# Altium footprint library DriveBoard.PcbLib: 18 footprints (part 1 of 2)
Each footprint in its own frame and in the unit in brackets; x right, y up, seen from the top. Pads: shape width x height; smd on the part's side, far side on the other; paste and mask are expansions set on the pad; w line width, h text height; cw(c..) or ccw(c..) is an arc to the next point about the centre after c.
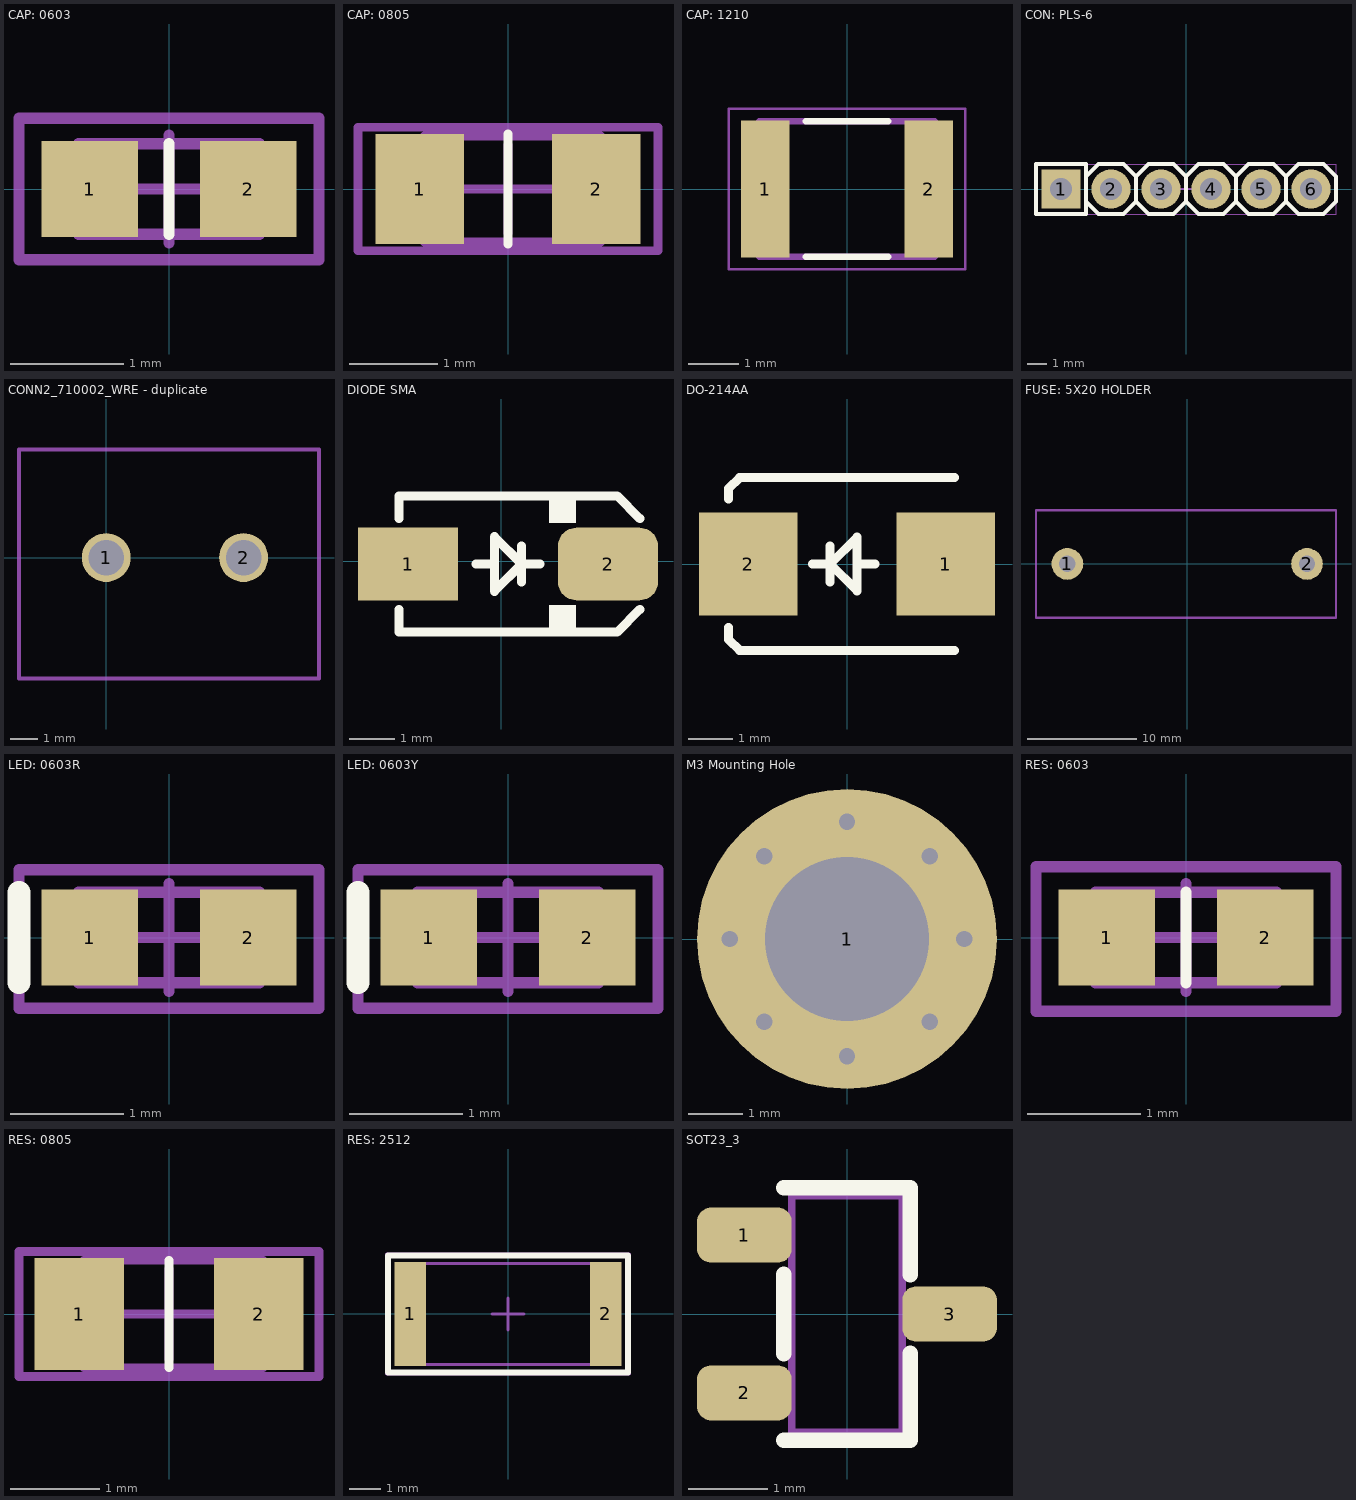
[diagram p0: the footprints below, top view; thin cyan lines are the x and y axes]

## CAP: 0603 [mm]
height 0.45
pads (2):
  rect 0.85x0.85 smd: 1(-0.7,0) 2(0.7,0)
Top Overlay:
  lines w0.1: 0,-0.4 0,0.4
Mechanical 1:
  lines w0.1: -0.8,-0.4 -0.8,0.4 0.8,0.4 0.8,-0.4 -0.8,-0.4
Mechanical 15:
  lines w0.1: -0.475,0 0.475,0 ; 0,-0.475 0,0.475 ; -1.325,-0.625 1.325,-0.625 1.325,0.625 -1.325,0.625 -1.325,-0.625
3D body "SW3dPS-0603 SMD Capacitor.STEP": height 0.3, standoff 0, extent -0.8,-0.4 0.8,0.4

## CAP: 0805 [mm]
height 0.45
pads (2):
  rect 1x1.25 smd: 1(-1,0) 2(1,0)
Top Overlay:
  lines w0.1: 0,-0.625 0,0.625
Mechanical 1:
  lines w0.1: -0.949,-0.6 -0.949,0.6 1.05,0.6 1.05,-0.6 -0.949,-0.6
Mechanical 15:
  lines w0.1: -0.5,0 0.5,0 ; 0,-0.5 0,0.5 ; -1.7,-0.7 1.7,-0.7 1.7,0.7 -1.7,0.7 -1.7,-0.7
3D body "SW3dPS-0805 SMD Capacitor.STEP": height 0.78, standoff 0, extent -1,-0.625 1,0.625

## CAP: 1210 [mm]
height 2.5
pads (2):
  rect 0.96x2.72 smd: 1(-1.625,0) 2(1.625,0)
Top Overlay:
  lines w0.127: -0.82,-1.35 0.82,-1.35 ; -0.82,1.35 0.82,1.35
Mechanical 13:
  lines w0.127: -1.75,-1.35 -1.75,1.35 1.75,1.35 1.75,-1.35 -1.75,-1.35
Mechanical 15:
  lines w0.05: -2.355,-1.6 -2.355,1.6 2.355,1.6 2.355,-1.6 -2.355,-1.6
3D body "c1210c106m6pactu.stp": height 2.09, standoff -0.01, extent -1.675,-1.346 1.725,1.354

## CON: PLS-6 [mm]
height 10
pads (6):
  rect 2x2 hole 1.1: 1(-6.35,0)
  round 2 hole 1.1: 2(-3.81,0) 3(-1.27,0) 4(1.27,0) 5(3.81,0) 6(6.35,0)
Top Overlay:
  lines w0.2: -5.08,-0.635 -4.445,-1.27 -3.175,-1.27 -2.54,-0.635 ; -5.08,0.635 -4.445,1.27 -3.175,1.27 -2.54,0.635 ; -2.54,-0.635 -1.905,-1.27 -0.635,-1.27 0,-0.635 ; -2.54,-0.635 -2.54,0.635 ; -2.54,0.635 -1.905,1.27 -0.635,1.27 0,0.635 ; 0,-0.635 0.635,-1.27 1.905,-1.27 2.54,-0.635 ; 0,-0.635 0,0.635 ; 0,0.635 0.635,1.27 1.905,1.27 2.54,0.635 ; 2.54,-0.635 3.175,-1.27 4.445,-1.27 5.08,-0.635 ; 2.54,-0.635 2.54,0.635 ; 2.54,0.635 3.175,1.27 4.445,1.27 5.08,0.635 ; 5.08,-0.635 5.08,0.635 ; 5.08,-0.635 5.715,-1.27 6.985,-1.27 7.62,-0.635 7.62,0.635 6.985,1.27 5.715,1.27 5.08,0.635 ; -7.62,-1.27 -5.08,-1.27 -5.08,1.27 -7.62,1.27 -7.62,-1.27
Mechanical 1:
  lines w0.1: -5.08,-0.635 -4.445,-1.27 -3.175,-1.27 -2.54,-0.635 ; -5.08,0.635 -4.445,1.27 -3.175,1.27 -2.54,0.635 ; -2.54,-0.635 -2.54,0.635 ; -2.54,-0.635 -1.905,-1.27 -0.635,-1.27 0,-0.635 ; -2.54,0.635 -1.905,1.27 -0.635,1.27 0,0.635 ; 0,-0.635 0,0.635 ; 0,-0.635 0.635,-1.27 1.905,-1.27 2.54,-0.635 ; 0,0.635 0.635,1.27 1.905,1.27 2.54,0.635 ; 2.54,-0.635 2.54,0.635 ; 2.54,-0.635 3.175,-1.27 4.445,-1.27 5.08,-0.635 ; 2.54,0.635 3.175,1.27 4.445,1.27 5.08,0.635 ; 5.08,-0.635 5.715,-1.27 6.985,-1.27 7.62,-0.635 7.62,0.635 6.985,1.27 5.715,1.27 5.08,0.635 ; 5.08,-0.635 5.08,0.635 ; -7.62,-1.27 -7.62,1.27 -5.08,1.27 -5.08,-1.27 -7.62,-1.27
Mechanical 15:
  lines w0.05: -7.62,-1.27 -7.62,1.27 7.62,1.27 7.62,-1.27 -7.62,-1.27
  lines w0.1: -0.5,0 0.5,0 ; 0,-0.5 0,0.5
3D body "PLS-6.STEP": height 8.54, standoff -3, extent -7.62,-1.27 7.62,1.27

## CONN2_710002_WRE - duplicate [mil]
pads (2):
  round 70 hole 51 paste-99999 mask+0: 1(0,0) 2(196.85,0)
Mechanical 15:
  lines w6: -125,-173.5 -125,155 304.95,155 304.95,-173.5 -125,-173.5
3D body "691213710002 (rev1).stp": height 393.59, standoff -149.72, extent -120.94,-175 296.38,151.77

## DIODE SMA [mm]
pads (2):
  rect 2.2x1.6 smd: 1(-2.05,-0.06)
  rrect50% 2.2x1.6 smd: 2(2.35,-0.06)
Top Overlay:
  rectangle: 1.05,0.84 1.65,1.44
  rectangle: 1.05,-1.56 1.65,-0.96
  lines w0.2: -2.25,-1.06 -2.25,-1.56 2.55,-1.56 3.05,-1.06 ; -2.25,0.94 -2.25,1.44 2.55,1.44 3.05,0.94 ; -0.55,-0.06 -0.15,-0.06 ; 0.45,-0.46 0.45,0.34 ; 0.85,-0.06 0.45,-0.06 ; 0.45,-0.06 -0.15,-0.66 -0.15,0.54 0.45,-0.06
3D body "User Library-DIOM5528X26.step": height 2.6, standoff 0.03, extent -2.6,-1.46 2.9,1.34

## DO-214AA [mm]
height 5
pads (2):
  rect 2.2x2.3 smd: 1(2.2,0) 2(-2.2,0)
Top Overlay:
  lines w0.2: -2.642,-1.422 -2.642,-1.688 -2.399,-1.93 2.401,-1.93 ; -2.642,1.448 -2.642,1.689 -2.4,1.93 2.401,1.93 ; -0.776,0 -0.376,0 ; -0.376,-0.4 -0.376,0.4 ; 0.224,0 0.624,0 ; -0.376,0 0.224,-0.6 0.224,0.6 -0.376,0
3D body "SMBJ8.5CA.STEP": height 2.66, standoff 0.05, extent -2.802,-1.81 2.598,1.81

## FUSE: 5X20 HOLDER [mm]
pads (2):
  round 2.9 hole 1.5: 1(-10.95,0) 2(10.95,0)
Mechanical 10:
  lines w0.2: 9.674,4.911 13.6,4.911 13.6,-4.924 -13.825,-4.924 -13.825,4.912 9.95,4.912
3D body "User Library-BLX-A Fuse Holder.step": height 13.07, standoff -4, extent -13.7,-4.8 13.478,4.8

## HSS-B20-NP-06 [mm] "Heat Sinks 19 x 19 x 9.52mm TO-220 bolt on"
height 9.52
3D body "HSS-B20-NP-06.stp": height 22.1, standoff 3.1, extent -9.5,-9.52 9.5,0

## LED: 0603R [mm]
height 0.45
pads (2):
  rect 0.85x0.85 smd: 1(-0.7,0) 2(0.7,0)
Top Overlay:
  lines w0.2: -1.325,-0.4 -1.325,0.4
Mechanical 1:
  lines w0.1: -0.8,-0.4 -0.8,0.4 0.8,0.4 0.8,-0.4 -0.8,-0.4
Mechanical 15:
  lines w0.1: -0.475,0 0.475,0 ; 0,-0.475 0,0.475 ; -1.325,-0.625 -1.325,0.6 1.325,0.6 1.325,-0.625 -1.325,-0.625
3D body "User Library-LED_0603_R.STEP": height 0.6, standoff 0, extent -0.8,-0.4 0.8,0.4

## LED: 0603Y [mm]
height 0.45
pads (2):
  rect 0.85x0.85 smd: 1(-0.7,0) 2(0.7,0)
Top Overlay:
  lines w0.2: -1.325,-0.4 -1.325,0.4
Mechanical 1:
  lines w0.1: -0.8,-0.4 0.8,-0.4 0.8,0.4 -0.8,0.4 -0.8,-0.4
Mechanical 15:
  lines w0.1: -0.475,0 0.475,0 ; 0,-0.475 0,0.475 ; -1.325,-0.625 1.325,-0.625 1.325,0.6 -1.325,0.6 -1.325,-0.625
3D body "User Library-LED_0603_Y.STEP": height 0.6, standoff 0, extent -0.8,-0.4 0.8,0.4

## M3 Mounting Hole [mm]
pads (1):
  round 5.5 hole 3 paste-2539.97 mask+0: 1(0,0)
via -2.15,0 diameter 0.6 hole 0.3
via 2.15,0 diameter 0.6 hole 0.3
via 0,-2.15 diameter 0.6 hole 0.3
via 1.52,-1.52 diameter 0.6 hole 0.3
via 1.52,1.52 diameter 0.6 hole 0.3
via -1.52,1.52 diameter 0.6 hole 0.3
via -1.52,-1.52 diameter 0.6 hole 0.3
via 0,2.15 diameter 0.6 hole 0.3
Mechanical 1:
  circle w0.05: c0,0 r2.15

## RES: 0603 [mm]
height 0.45
pads (2):
  rect 0.85x0.85 smd: 1(-0.7,0) 2(0.7,0)
Top Overlay:
  lines w0.1: 0,-0.4 0,0.4
Mechanical 1:
  lines w0.1: -0.8,-0.4 -0.8,0.4 0.8,0.4 0.8,-0.4 -0.8,-0.4
Mechanical 15:
  lines w0.1: -0.475,0 0.475,0 ; 0,-0.475 0,0.475 ; -1.325,-0.65 1.325,-0.65 1.325,0.625 -1.325,0.625 -1.325,-0.65
3D body "chip_0603_r.STEP": height 0.44, standoff -0.02, extent -0.8,-0.4 0.8,0.4

## RES: 0805 [mm]
height 0.45
pads (2):
  rect 1x1.25 smd: 1(-1,0) 2(1,0)
Top Overlay:
  lines w0.1: 0,-0.6 0,0.6
Mechanical 1:
  lines w0.1: -0.949,-0.6 1.05,-0.6 1.05,0.6 -0.949,0.6 -0.949,-0.6
Mechanical 15:
  lines w0.1: -0.5,0 0.5,0 ; 0,-0.5 0,0.5 ; -1.675,-0.7 -1.675,0.7 1.675,0.7 1.675,-0.7 -1.675,-0.7
3D body "chip_0805_r.STEP": height 0.44, standoff -0.02, extent -1,-0.6 1,0.6

## RES: 2512 [mm]
height 0.55
pads (2):
  rect 1x3.3 smd: 1(-3.1,0) 2(3.1,0)
Top Overlay:
  lines w0.2: -3.8,-1.85 3.8,-1.85 3.8,1.85 -3.8,1.85 -3.8,-1.85
Mechanical 1:
  lines w0.1: -3.175,-1.6 3.175,-1.6 3.175,1.6 -3.175,1.6 -3.175,-1.6
Mechanical 15:
  lines w0.1: -0.5,0 0.5,0 ; 0,-0.5 0,0.5 ; -3.85,-1.9 -3.85,1.9 3.85,1.9 3.85,-1.9 -3.85,-1.9
3D body "chip_2512_r.STEP": height 0.52, standoff -0.04, extent -3.175,-1.6 3.175,1.6

## SOT23_3 [mm]
pads (3):
  rrect50% 1.2x0.7 smd mask+0.1: 1(-1.3,1) 2(-1.3,-1) 3(1.3,0)
Top Overlay:
  lines w0.2: -0.8,-1.6 0.8,-1.6 0.8,-0.5 ; -0.8,-0.5 -0.8,0.5 ; -0.8,1.6 0.8,1.6 0.8,0.5
Mechanical 13:
  lines w0.1: -0.7,-1.5 0.7,-1.5 0.7,1.5 -0.7,1.5 -0.7,-1.5
3D body "User Library-SOT23-2.STEP": height 1.08, standoff 0, extent -1.32,-1.5 1.32,1.5